# EAGLE library part AMPHENOL_RJ45 (library excitebike)
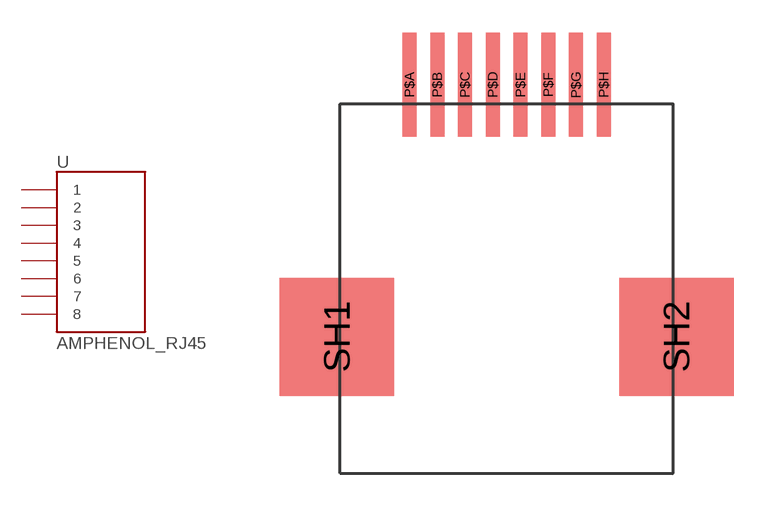
[diagram p1: symbol with the pads of RJ45-SMT; footprint RJ45-SMT]

Designator prefix -

## AMPHENOL_RJ45  [RJ45-SMT]
P$A  1
P$B  2
P$C  3
P$D  4
P$E  5
P$F  6
P$G  7
P$H  8

## Footprint RJ45-SMT (pad centres in mm)
smd 0.635 x 4.75: P$A 3.175,17.78; P$B 4.445,17.78; P$C 5.715,17.78; P$D 6.985,17.78; P$E 8.255,17.78; P$F 9.525,17.78; P$G 10.795,17.78; P$H 12.065,17.78
smd 5.24 x 5.4: SH1 -0.15,6.24; SH2 15.39,6.24